# Altium schematic symbol library Schlib1.SchLib: 2 symbols
Pins are listed as number, name and electrical type; pins without a type are passive.

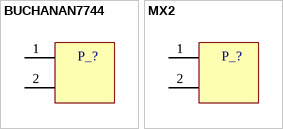
[diagram p0: symbols BUCHANAN7744 to MX2]

## BUCHANAN7744
designator P_?  (value not drawn)
pins: 1, 2  

## MX2
designator P_?, comment Microfit 2  (value not drawn)
Microfit 2x1
footprint mx2x1 (right_angle)
pins: 1, 2